# Altium integrated library fujitsu.IntLib: 1 symbol
Pins are listed as number, name and electrical type; pins without a type are passive.

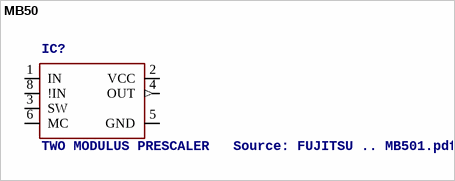
[diagram p0: symbol MB50]

## MB50
designator IC?, comment TWO MODULUS PRESCALER   Source: FUJITSU .. MB501.pdf
OC_FARNELL: unknown; OC_NEWARK: unknown
footprint SO08
pins: 1 IN, 2 VCC (power), 3 SW, 4 OUT (out), 5 GND (power), 6 MC, 8 !IN